# Altium schematic symbol library Hsiao_AltiumDesigner.SchLib: 2 symbols
Pins are listed as number, name and electrical type; pins without a type are passive.

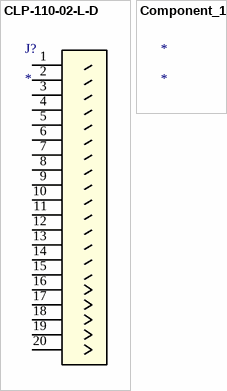
[diagram p0: symbols CLP-110-02-L-D to Component_1]

## CLP-110-02-L-D
designator J?
Imported; Manufacturer_Part_Number: CLP-110-02-L-D; Vendor: Samtec Inc; Built_By: EMA_UL_Team; C: Copyright (C) 2015 Accelerated Designs. All rights reserved; Value: Value; Type: Type; RefDes: RefDes
footprint CON20_2X10_DUA_C
pins: 1, 2, 3, 4, 5, 6, 7, 8, 9, 10, 11, 12, 13, 14, 15, 16, 17, 18, 19, 20

## Component_1
designator *